# Altium footprint library 219-4MST.PcbLib: 1 footprints
Each footprint in its own frame and in the unit in brackets; x right, y up, seen from the top. Pads: shape width x height; smd on the part's side, far side on the other; paste and mask are expansions set on the pad; w line width, h text height; cw(c..) or ccw(c..) is an arc to the next point about the centre after c.
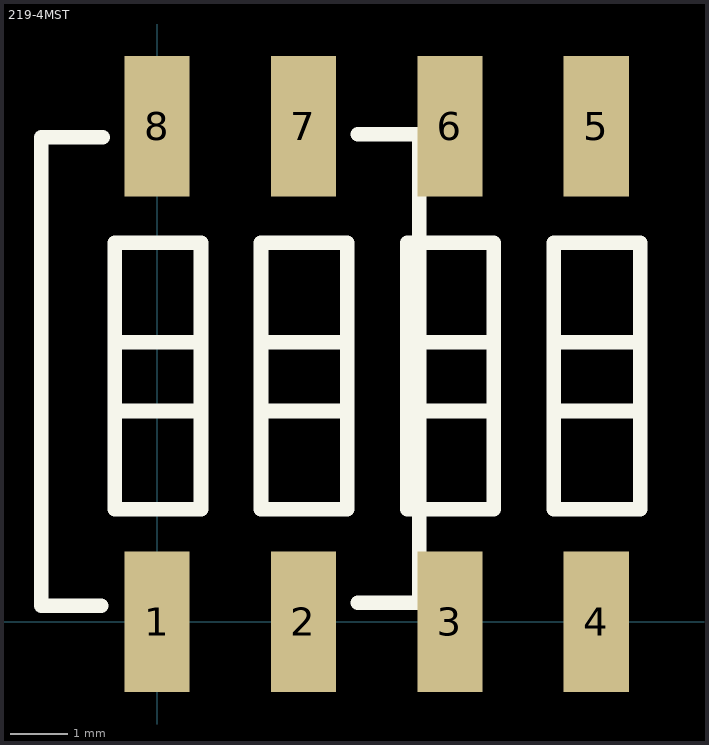
[diagram p0: the footprint, top view; thin cyan lines are the x and y axes]

## 219-4MST [mm] "4 position SMT DIP switch"
height 3.8
pads (8):
  rect 1.13x2.44 smd paste+0 mask+0.075: 1(0,0) 2(2.54,0) 3(5.08,0) 4(7.62,0) 5(7.62,8.6) 6(5.08,8.6) 7(2.54,8.6) 8(0,8.6)
Top Overlay:
  lines w0.254: -0.965,0.279 -2.007,0.279 -2.007,8.407 -0.94,8.407 ; -0.737,3.658 0.737,3.658 ; -0.686,4.851 0.737,4.851 ; 1.803,3.658 3.277,3.658 ; 1.854,4.851 3.277,4.851 ; 3.48,0.33 4.547,0.33 4.547,8.458 3.48,8.458 ; 4.343,3.658 5.817,3.658 ; 4.394,4.851 5.817,4.851 ; 6.883,3.658 8.357,3.658 ; 6.934,4.851 8.357,4.851 ; -0.737,1.956 -0.737,6.579 0.762,6.579 0.762,1.956 -0.737,1.956 ; 1.803,1.956 3.302,1.956 3.302,6.579 1.803,6.579 1.803,1.956 ; 4.343,1.956 5.842,1.956 5.842,6.579 4.343,6.579 4.343,1.956 ; 6.883,1.956 8.382,1.956 8.382,6.579 6.883,6.579 6.883,1.956